# Altium footprint library PcbLib1.PcbLib: 4 footprints
Each footprint in its own frame and in the unit in brackets; x right, y up, seen from the top. Pads: shape width x height; smd on the part's side, far side on the other; paste and mask are expansions set on the pad; w line width, h text height; cw(c..) or ccw(c..) is an arc to the next point about the centre after c.
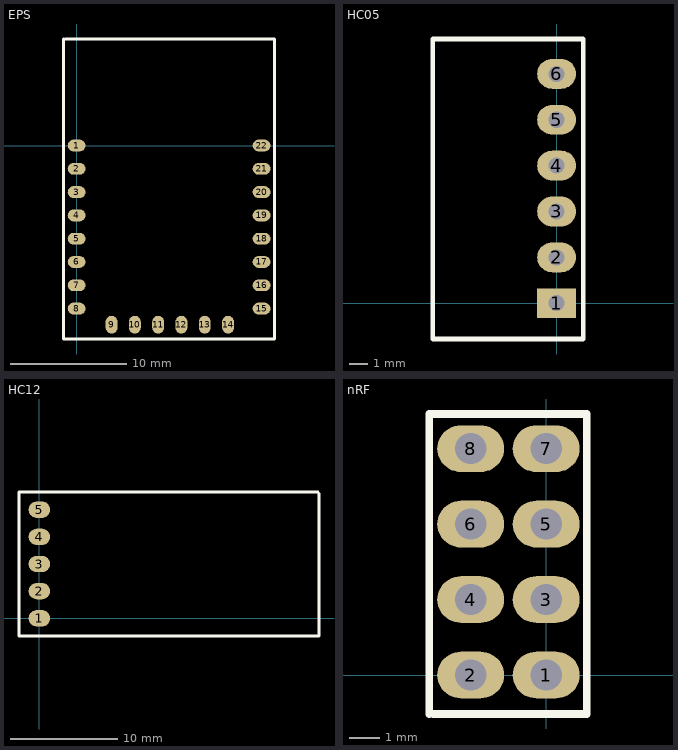
[diagram p0: the footprints below, top view; thin cyan lines are the x and y axes]

## EPS [mil]
pads (22):
  oval 60x40 smd: 1(0,0) 2(0,-78.74) 3(0,-157.48) 4(0,-236.22) 5(0,-314.96) 6(0,-393.7) 7(0,-472.44) 8(0,-551.18) 15(625.16,-551.18) 16(625.16,-472.44) 17(625.16,-393.7) 18(625.16,-314.96) 19(625.16,-236.22) 20(625.16,-157.48) 21(625.16,-78.74) 22(625.16,0)
  oval 40x60 smd: 9(118.11,-605.51) 10(196.85,-605.51) 11(275.59,-605.51) 12(354.33,-605.51) 13(433.07,-605.51) 14(511.81,-605.51)
Top Overlay:
  lines w10: -44,360 -44,-635.5 -44,-654 668.5,-654 668.5,-551.75 ; -38.5,360 668.5,360 668.5,-534.5 668.5,-551.5
Mechanical 1:
  lines w10: 668.5,-551.5 668.5,-552 668.5,-551 ; 668.5,273.75 668.5,279.37 ; 668.5,285.92 668.5,286.86
3D body: height 807.09, standoff -2106.3, extent 30,-115 30,-115
3D body: height 807.09, standoff -2106.3, extent 35,-265 35,-265
3D body "EPS8266 ESP-12F.STEP": height 104.33, standoff -1.38, extent -0.16,-607.63 630.16,337.45

## HC05 [mil]
pads (6):
  rect 85x65 hole 35: 1(0,0)
  oval 85x65 hole 35: 2(0,100) 3(0,200) 4(0,300) 5(0,400) 6(0,500)
Top Overlay:
  lines w10: -270,-78 58,-78 58,576 47,576 -270,576 -270,-78
3D body "HC-05.STEP": height 728.35, standoff -948.16, extent -257.87,-65.45 0.01,564.47

## HC12 [mil]
pads (5):
  oval 80x60 smd: 1(0,0) 2(0,100) 3(0,200) 4(0,300) 5(0,400)
Top Layer:
  lines w10: 1025,465 1030,460
Top Overlay:
  lines w10: 1025,465 -75,465 -75,-65 1030,-65 1030,460
3D body "HC-12 SI4463 WIRELESS SERIAL MODULE.STEP": height 1019.68, standoff 0, extent -66.34,-61.8 1024.12,461.82

## nRF [mil]
pads (8):
  oval 86x60 hole 40: 1(0,0) 2(-96.85,0) 3(0,96.85) 4(-96.85,96.85) 5(0,193.7) 6(-96.85,193.7) 7(0,290.55) 8(-96.85,290.55)
Top Overlay:
  lines w10: -150,-50 -150,335 -145,335 52,335 52,-50 -145,-50
3D body: height 807.09, standoff -2106.3, extent 410,-150 410,-150
3D body "NRF24l01_with_antenna.STEP": height 3560.96, standoff -324.41, extent -2821.3,-150.19 92.09,450.2